# EAGLE library part RES_ARR (library Simplex-rlc)
resistor chip array yageo YC164 series (8pin/4R)
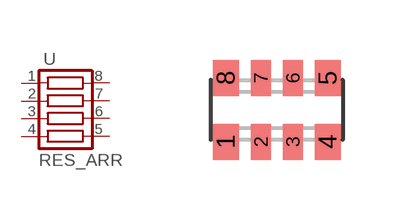
[diagram p0: symbol with the pads of YC164; footprint YC164]

Designator prefix -

## RES_ARR  [YC164]
1  1  pas
2  2  pas
3  3  pas
4  4  pas
5  5  pas
6  6  pas
7  7  pas
8  8  pas

## Footprint YC164 (pad centres in mm)
yageo YC164 series (8pin/4R)
smd 0.65 x 0.9: 1 -1.275,-0.8; 4 1.275,-0.8; 5 1.275,0.8; 8 -1.275,0.8
smd 0.5 x 0.9: 2 -0.4,-0.8; 3 0.4,-0.8; 6 0.4,0.8; 7 -0.4,0.8